# Altium footprint library стабилизаторы импульсные.PcbLib: 45 footprints (part 2 of 3)
Each footprint in its own frame and in the unit in brackets; x right, y up, seen from the top. Pads: shape width x height; smd on the part's side, far side on the other; paste and mask are expansions set on the pad; w line width, h text height; cw(c..) or ccw(c..) is an arc to the next point about the centre after c.
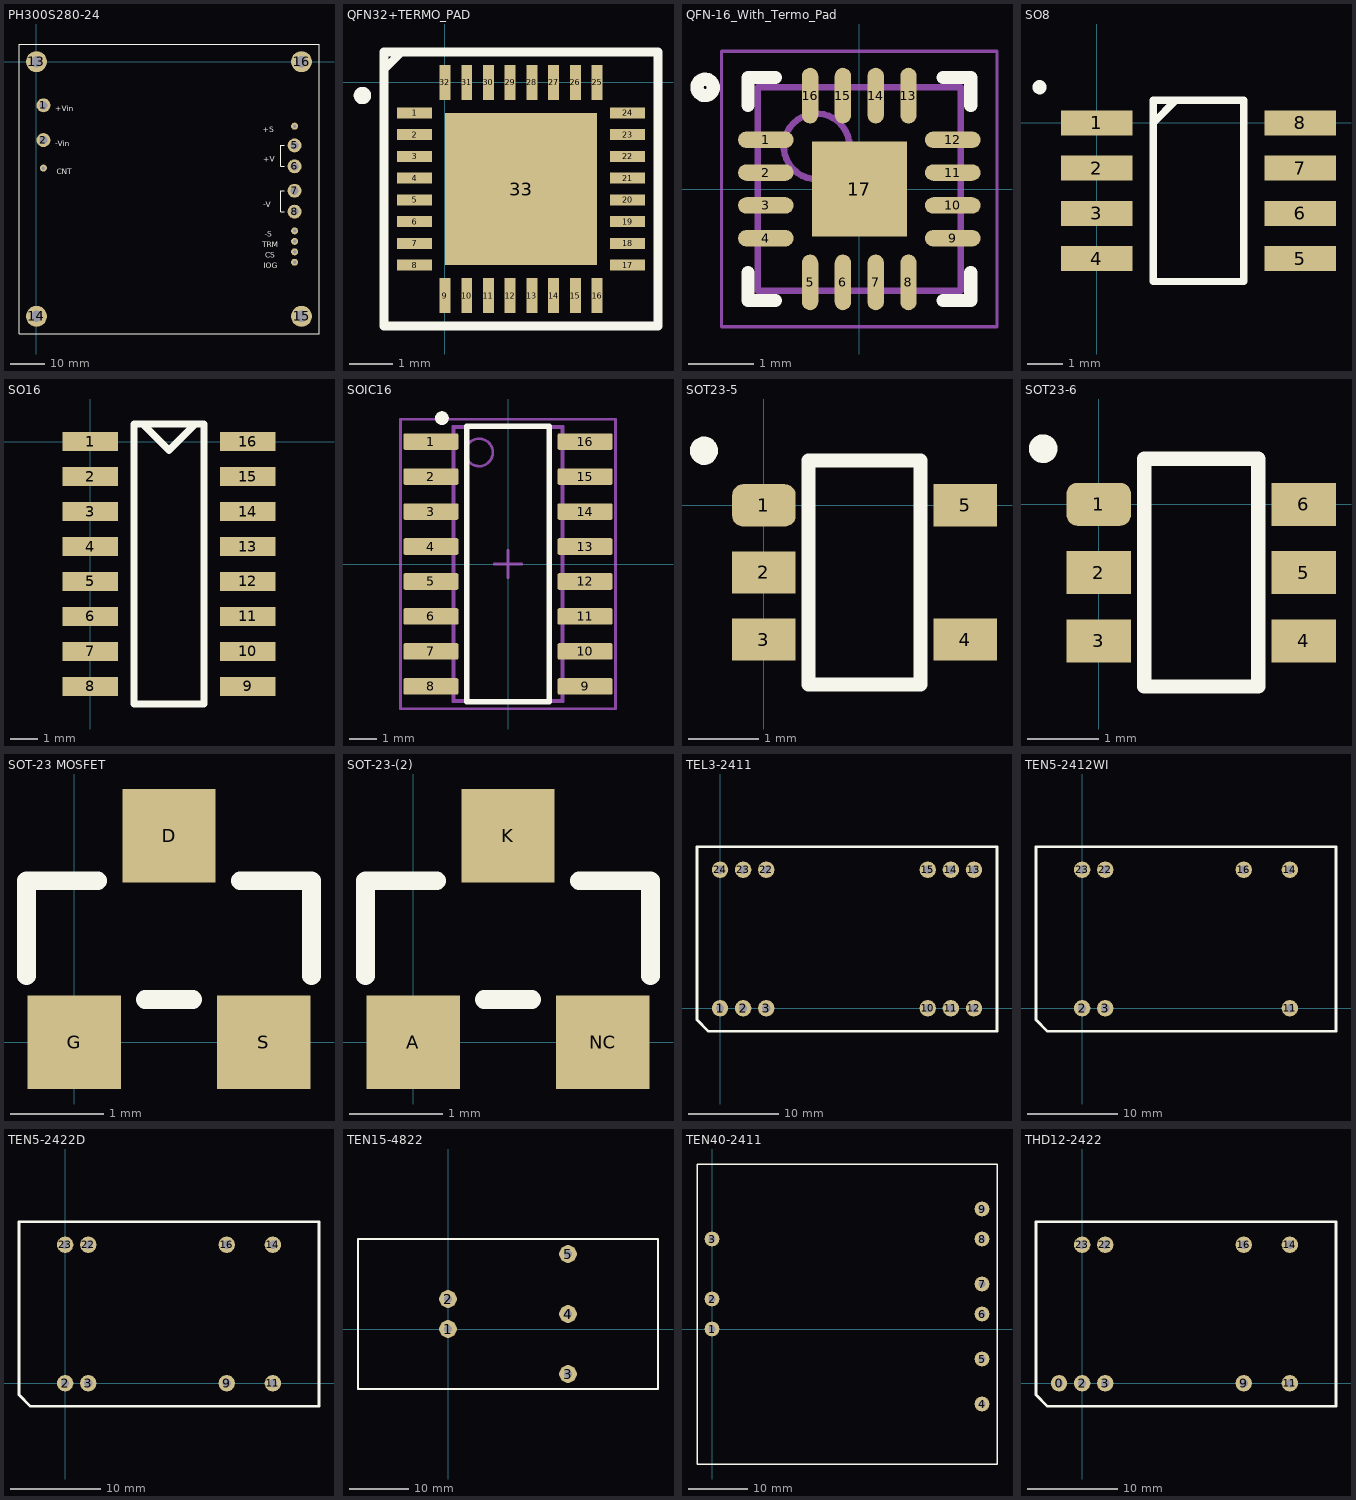
[diagram p1: the footprints below, top view; thin cyan lines are the x and y axes]

## PH300S280-24 [mm]
pads (16):
  round 4 hole 2.3: 1(1.985,-12.488) 2(1.985,-22.49) 5(74,-23.99) 6(74,-29.991) 7(74,-36.993) 8(74,-42.994)
  round 2 hole 1: 3(1.985,-30.492) 4(74,-18.489) 9(74,-48.495) 10(74,-51.496) 11(74,-54.496) 12(74,-57.497)
  round 6 hole 3.2: 13(-0.015,0.015) 14(-0.015,-73) 15(76,-73) 16(76,0.015)
Top Overlay:
  lines w0.254: 71.004,-42.993 70.002,-42.993 70.002,-36.991 71.004,-36.991 ; 71.004,-29.993 70.002,-29.993 70.002,-23.99 71.004,-23.99 ; -5.016,-78.001 -5.016,5.016 81.001,5.016 81.001,-78.001 -5.016,-78.001
  text "CS" at 65.587,-56.215 h1.59
  text "IOG" at 65.19,-59.214 h1.59
  text "-S" at 65.389,-50.214 h1.59
  text "-V" at 64.968,-41.714 h1.59
  text "+V" at 64.968,-28.714 h1.59
  text "+S" at 64.889,-20.215 h1.59
  text "TRM" at 64.793,-53.215 h1.59
  text "+Vin" at 5.396,-14.215 h1.59
  text "CNT" at 5.873,-32.214 h1.59
  text "-Vin" at 5.396,-24.215 h1.59

## QFN32+TERMO_PAD [mm]
pads (33):
  rect 0.8x0.25 smd mask+0.025: 1(-0.7,-0.7) 2(-0.7,-1.2) 3(-0.7,-1.7) 4(-0.7,-2.2) 5(-0.7,-2.7) 6(-0.7,-3.2) 7(-0.7,-3.7) 8(-0.7,-4.2) 17(4.2,-4.2) 18(4.2,-3.7) 19(4.2,-3.2) 20(4.2,-2.7) 21(4.2,-2.2) 22(4.2,-1.7) 23(4.2,-1.2) 24(4.2,-0.7)
  rect 0.25x0.8 smd mask+0.025: 9(0,-4.9) 10(0.5,-4.9) 11(1,-4.9) 12(1.5,-4.9) 13(2,-4.9) 14(2.5,-4.9) 15(3,-4.9) 16(3.5,-4.9) 25(3.5,0) 26(3,0) 27(2.5,0) 28(2,0) 29(1.5,0) 30(1,0) 31(0.5,0) 32(0,0)
  rect 3.5x3.5 smd mask+0.025: 33(1.75,-2.45)
Top Overlay:
  circle w0.2: c-1.9,-0.3 r0.1
  lines w0.2: -1,0.7 -1.4,0.3 ; -1.4,0.3 -1.4,0.3 ; -1.4,-5.6 -1.4,0.7 4.9,0.7 4.9,-5.6 -1.4,-5.6
3D body "User Library-QFN32.SLDPRT": height 1.08, standoff -0.05, extent -0.76,-4.96 4.26,0.06

## QFN-16_With_Termo_Pad [mm] "QFN, 16-Leads, Body 3,00x3,00mm, Pitch 0,50mm, Thermal Pad 1,45x1,45mm, IPC Medium Density"
height 0.8
pads (17):
  oval 0.85x0.25 smd: 1(-1.425,0.75) 2(-1.425,0.25) 3(-1.425,-0.25) 4(-1.425,-0.75) 9(1.425,-0.75) 10(1.425,-0.25) 11(1.425,0.25) 12(1.425,0.75)
  oval 0.25x0.85 smd: 5(-0.75,-1.425) 6(-0.25,-1.425) 7(0.25,-1.425) 8(0.75,-1.425) 13(0.75,1.425) 14(0.25,1.425) 15(-0.25,1.425) 16(-0.75,1.425)
  rect 1.45x1.45 smd: 17(0,0)
Top Overlay:
  circle w0.2: c-2.35,1.55 r0.125
  lines w0.2: -1.7,-1.275 -1.7,-1.7 -1.275,-1.7 ; -1.7,1.275 -1.7,1.7 -1.275,1.7 ; 1.275,-1.7 1.7,-1.7 1.7,-1.275 ; 1.275,1.7 1.7,1.7 1.7,1.275
Mechanical 13:
  circle w0.1: c-0.65,0.65 r0.5
  lines w0.1: -1.55,-1.55 -1.55,1.55 1.55,1.55 1.55,-1.55 -1.55,-1.55
Mechanical 15:
  lines w0.05: -2.1,-2.1 -2.1,2.1 2.1,2.1 2.1,-2.1 -2.1,-2.1
  lines w0.1: -0.5,0 0.5,0 ; 0,-0.5 0,0.5
3D body: height 0.8, standoff 0.01, extent -1.55,-1.55 1.55,1.55

## SO8 [mm]
pads (8):
  rect 2x0.7 smd mask+0.025: 1(0,0) 2(0,-1.27) 3(0,-2.54) 4(0,-3.81) 5(5.715,-3.81) 6(5.715,-2.54) 7(5.715,-1.27) 8(5.715,0)
Top Overlay:
  circle w0.2: c-1.6,1 r0.1
  lines w0.2: 1.587,0 2.222,0.635 ; 1.587,-4.445 1.587,0.635 4.127,0.635 4.127,-4.445 1.587,-4.445
3D body "CircuitWorks-SO-8 (PIC12FXXX).SLDPRT": height 1.6, standoff 0, extent -0.12,-4.36 5.87,0.54

## SO16 [mm]
pads (16):
  rect 2x0.7 smd: 1(0,0) 2(0,-1.27) 3(0,-2.54) 4(0,-3.81) 5(0,-5.08) 6(0,-6.35) 7(0,-7.62) 8(0,-8.89) 9(5.715,-8.89) 10(5.715,-7.62) 11(5.715,-6.35) 12(5.715,-5.08) 13(5.715,-3.81) 14(5.715,-2.54) 15(5.715,-1.27) 16(5.715,0)
Top Overlay:
  lines w0.254: 1.905,0.635 2.857,-0.318 3.81,0.635 ; 1.587,-9.525 1.587,0.635 4.127,0.635 4.127,-9.525 1.587,-9.525

## SOIC16 [mm] "16-Pin Small Outline Integrated Circuit 1.27 mm Pitch, IPC Medium Density"
height 1.75
pads (16):
  rrect20% 2x0.6 smd mask+0.025: 1(-2.8,4.445) 2(-2.8,3.175) 3(-2.8,1.905) 4(-2.8,0.635) 5(-2.8,-0.635) 6(-2.8,-1.905) 7(-2.8,-3.175) 8(-2.8,-4.445) 9(2.8,-4.445) 10(2.8,-3.175) 11(2.8,-1.905) 12(2.8,-0.635) 13(2.8,0.635) 14(2.8,1.905) 15(2.8,3.175) 16(2.8,4.445)
Top Overlay:
  circle w0.25: c-2.4,5.295 r0.125
  lines w0.2: -1.5,-5 -1.5,5 1.5,5 1.5,-5 -1.5,-5
Mechanical 3:
  text ".comment" at 0,0 h1
Mechanical 5:
  lines w0.1: -2,-5 -2,5 2,5 2,-5 -2,-5
  lines w0.2: -2.305,5.268 cw(c-2.4,5.3) -2.3,5.3
  text ".Designator" at -2,5.5 h1
Mechanical 7:
  lines w0.1: -0.5,0 0.5,0 ; 0,-0.5 0,0.5 ; -3.9,-5.25 -3.9,5.25 3.9,5.25 3.9,-5.25 -3.9,-5.25
Mechanical 13:
  circle w0.1: c-1.05,4.05 r0.5
  lines w0.1: -1.95,-4.95 -1.95,4.95 1.95,4.95 1.95,-4.95 -1.95,-4.95
3D body "SOIC127P600X175-16N.stp": height 1.75, standoff 0, extent -3.1,-5 3.1,5

## SOT23-5 [mm]
pads (5):
  rrect50% 0.9x0.6 smd mask+0.025: 1(0,0)
  rect 0.9x0.6 smd mask+0.025: 2(0,-0.953) 3(0,-1.905) 4(2.857,-1.905) 5(2.857,0)
Top Overlay:
  circle w0.2: c-0.85,0.775 r0.1
  lines w0.2: 0.635,-2.54 0.635,0.635 2.222,0.635 2.222,-2.54 0.635,-2.54
3D body "User Library-SOT23-5.STEP": height 1.09, standoff -0.01, extent 0,-2.399 2.8,0.5

## SOT23-6 [mm]
pads (6):
  rrect50% 0.9x0.6 smd mask+0.025: 1(0,0)
  rect 0.9x0.6 smd mask+0.025: 2(0,-0.953) 3(0,-1.905) 4(2.857,-1.905) 5(2.857,-0.953) 6(2.857,0)
Top Overlay:
  circle w0.2: c-0.775,0.775 r0.1
  lines w0.2: 0.635,-2.54 2.222,-2.54 2.222,0.635 0.635,0.635 0.635,-2.54
3D body "User Library-SOT-23-6-3.SLDPRT": height 0.86, standoff 0, extent 0.02,-2.45 2.83,0.55

## SOT-23 MOSFET [mm]
pads (3):
  rect 1x1 smd mask+0.025: D(1.016,2.21) G(0,0) S(2.032,0)
Top Overlay:
  lines w0.2: -0.508,0.711 -0.508,1.727 0.254,1.727 ; 0.762,0.457 1.27,0.457 ; 1.778,1.727 2.54,1.727 2.54,0.711
3D body "User Library-SOT-23-2.SLDPRT": height 1.08, standoff 0, extent -0.475,-0.22 2.525,2.42

## SOT-23-(2) [mm]
pads (3):
  rect 1x1 smd mask+0.025: A(0,0) K(1.016,2.21) NC(2.032,0)
Top Overlay:
  lines w0.2: -0.508,0.711 -0.508,1.727 0.254,1.727 ; 0.762,0.457 1.27,0.457 ; 1.778,1.727 2.54,1.727 2.54,0.711
3D body "User Library-SOT-23-2.SLDPRT": height 1.08, standoff 0, extent -0.475,-0.22 2.525,2.42

## TEL3-2411 [mm]
pads (12):
  round 1.8 hole 0.9: 1(0,0) 2(2.54,0) 3(5.08,0) 10(22.86,0) 11(25.4,0) 12(27.94,0) 13(27.94,15.24) 14(25.4,15.24) 15(22.86,15.24) 22(5.08,15.24) 23(2.54,15.24) 24(0,15.24)
Top Overlay:
  lines w0.3: -2.54,-1.27 -1.27,-2.54 30.48,-2.54 30.48,17.78 -2.54,17.78 -2.54,-1.27

## TEN5-2412WI [mm]
pads (7):
  round 1.8 hole 0.9: 2(0,0) 3(2.54,0) 11(22.86,0) 14(22.86,15.24) 16(17.78,15.24) 22(2.54,15.24) 23(0,15.24)
Top Overlay:
  lines w0.3: -5.08,-1.27 -3.81,-2.54 27.94,-2.54 27.94,17.78 -5.08,17.78 -5.08,-1.27

## TEN5-2422D [mm]
pads (8):
  round 1.8 hole 0.9: 2(0,0) 3(2.54,0) 9(17.78,0) 11(22.86,0) 14(22.86,15.24) 16(17.78,15.24) 22(2.54,15.24) 23(0,15.24)
Top Overlay:
  lines w0.3: -5.08,-1.27 -5.08,17.78 27.94,17.78 27.94,-2.54 -3.81,-2.54 -5.08,-1.27

## TEN15-4822 [mm]
pads (5):
  round 3 hole 1.3: 1(0,0) 2(0,5.08) 3(20.32,-7.62) 4(20.32,2.54) 5(20.32,12.7)
Top Overlay:
  lines w0.3: -15.24,-10.16 -15.24,15.24 35.56,15.24 35.56,-10.16 -15.24,-10.16

## TEN40-2411 [mm]
pads (9):
  round 2.5 hole 1.2: 1(0,0) 2(0,5.08) 3(0,15.24) 4(45.72,-12.7) 5(45.72,-5.08) 6(45.72,2.54) 7(45.72,7.62) 8(45.72,15.24) 9(45.72,20.32)
Top Overlay:
  lines w0.254: -2.54,-22.86 48.26,-22.86 48.26,27.94 -2.54,27.94 -2.54,-22.86

## THD12-2422 [mm]
pads (9):
  round 1.8 hole 0.9: 0(-2.54,0) 2(0,0) 3(2.54,0) 9(17.78,0) 11(22.86,0) 14(22.86,15.24) 16(17.78,15.24) 22(2.54,15.24) 23(0,15.24)
Top Overlay:
  lines w0.3: -5.08,-1.27 -5.08,17.78 27.94,17.78 27.94,-2.54 -3.81,-2.54 -5.08,-1.27